# Altium schematic symbol library Remote.SchLib: 29 symbols
Pins are listed as number, name and electrical type; pins without a type are passive.

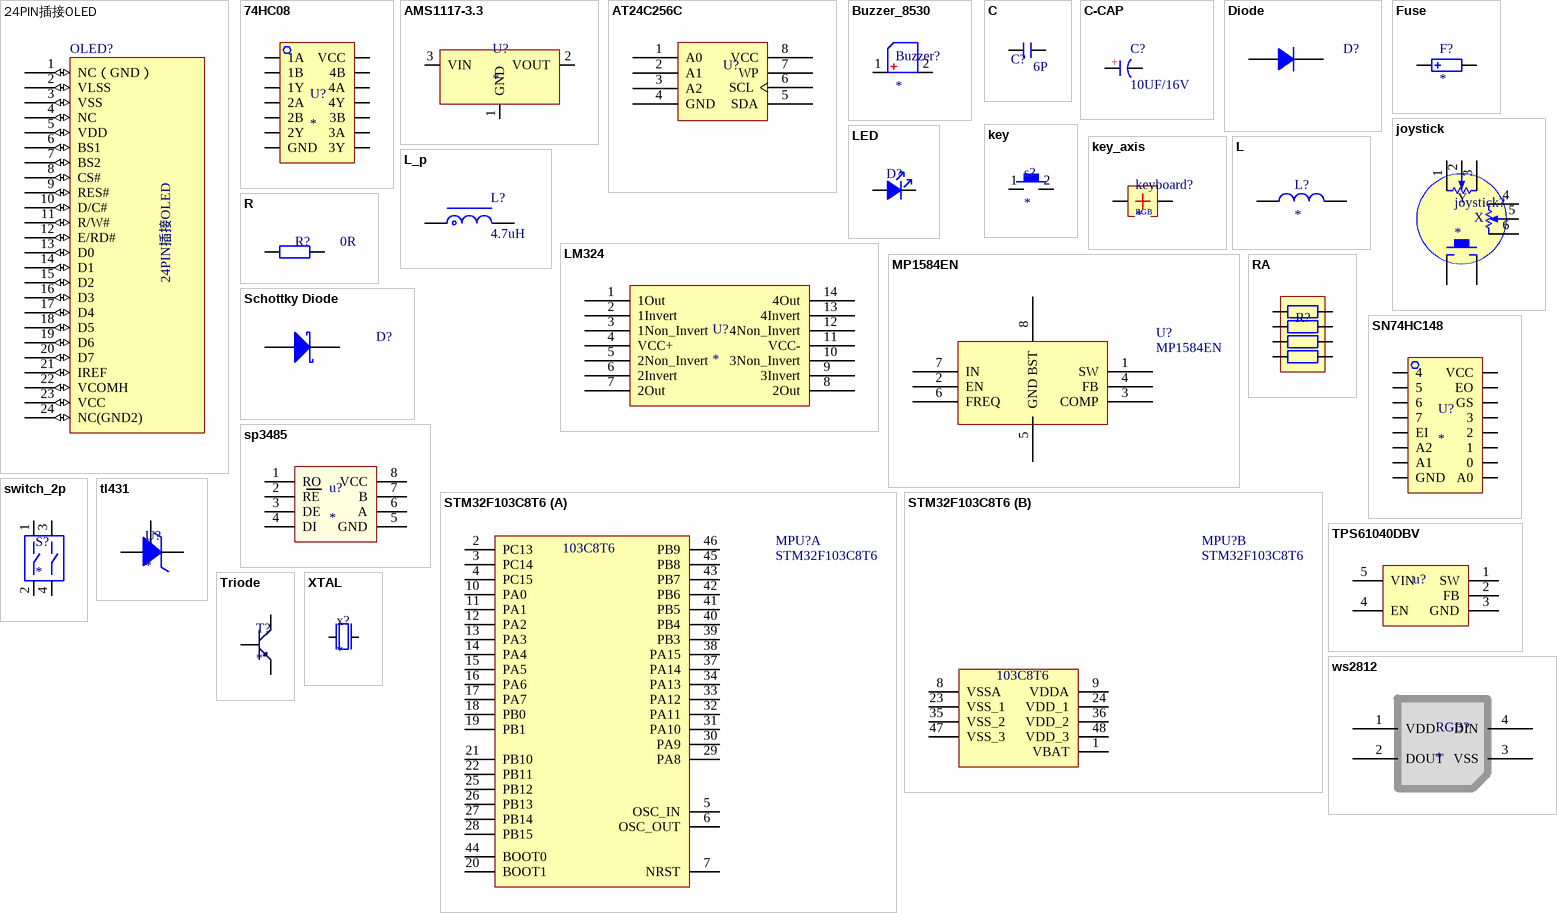
[diagram p0: symbols 24PIN插接OLED to XTAL]

## 24PIN插接OLED
designator OLED?
24PIN插接OLED
pins: 1 NC（GND） (io), 2 VLSS (io), 3 VSS (io), 4 NC (io), 5 VDD (io), 6 BS1 (io), 7 BS2 (io), 8 CS# (io), 9 RES# (io), 10 D/C# (io), 11 R/W# (io), 12 E/RD# (io), 13 D0 (io), 14 D1 (io), 15 D2 (io), 16 D3 (io), 17 D4 (io), 18 D5 (io), 19 D6 (io), 20 D7 (io), 21 IREF (io), 22 VCOMH (io), 23 VCC (io), 24 NC(GND2) (io)

## 74HC08
designator U?
4-AND
pins: 1 1A, 2 1B, 3 1Y, 4 2A, 5 2B, 6 2Y, 7 GND, 8 3Y, 9 3A, 10 3B, 11 4Y, 12 4A, 13 4B, 14 VCC

## AMS1117-3.3
designator U?
LDO
footprint ASM1117 (SOT223, 4-Leads, Body 6.51x7.00mm (avg), Pitch 2.30mm, IPC Medium Density)
pins: 1 GND, 2 VOUT, 3 VIN

## AT24C256C
designator U?
256KBIT_EEPROM; BOM名称: 外置EEPROM; 版权归属: 源创客; 学习资源: www.ooocke.com
footprint SOP8_L (5*6*1.8mm（长宽高）)
pins: 1 A0, 2 A1, 3 A2, 4 GND, 5 SDA, 6 SCL, 7 WP, 8 VCC (power)

## Buzzer_8530
designator Buzzer?
无源蜂鸣器
footprint BUZZER_8530
pins: 1, 2

## C
designator C?, comment 6P
无极性贴片电容; 版权归属: 源创客; BOM名称: 无极性贴片电容; 学习资源: www.ooocke.com
footprint C 0603 (无极性贴片电容)
pins: 1, 2

## C-CAP
designator C?, comment 10UF/16V
直插电解电容; 版权归属: 源创客; BOM名称: 直插电解电容; 学习资源: www.ooocke.com
footprint C 1206 (无极性贴片电容)
pins: 1 A, 2 K
text: +

## Diode
designator D?
二极管; 备注: 1N4007 4007 编号C2464 已经停售, 使用新物料编号C95872; ComponentLink1Description: 供应商链接; ComponentLink1URL: http://www.szlcsc.com/product/details_2841.html; Package: SMA(DO-214AC); Supplier: LC; SuppliersPartNumber: C95872
footprint SMA(DO-214AC)_S1
pins: 1 A, 2 K

## Fuse
designator F?
自恢复保险丝
pins: 1, 2

## joystick
designator joystick?
PS2摇杆
footprint JoyStick
pins: 1, 2, 3, 4, 5, 6, J1, J2
text: Y; X

## key
designator s?
轻触开关
footprint KEY
pins: 1, 2

## key_axis
designator keyboard?
RGB键盘轴体
footprint KEY_AXIS
pins: 1, 2
text: RGB

## L
designator L?
电感
pins: 1, 2

## L_p
designator L?, comment 4.7uH
小功率贴片电感; 版权归属: 源创客; BOM名称: 小功率贴片电感; 学习资源: www.ooocke.com
footprint L 0603 (小功率贴片电感)
pins: 1, 2

## LED
designator D?
发光二极管
footprint 0603
pins: 1, 2

## LM324
designator U?
4-运放
footprint LM324 (SOIC, 14-Leads, Body 8.65x3.90mm, Pitch 1.27mm, IPC Medium Density)
pins: 1 1Out, 2 1Invert, 3 1Non_Invert, 4 VCC+, 5 2Non_Invert, 6 2Invert, 7 2Out, 8 2Out, 9 3Invert, 10 3Non_Invert, 11 VCC-, 12 4Non_Invert, 13 4Invert, 14 4Out

## MP1584EN
designator U?
电源IC
footprint LC-SOIC-8_EP_150mil
pins: 1 SW, 2 EN, 3 COMP, 4 FB, 5 GND, 6 FREQ, 7 IN, 8 BST

## R
designator R?, comment 0R
贴片电阻; 版权归属: 源创客; BOM名称: 贴片电阻; 学习资源: www.ooocke.com
footprint R 0603 (1/10W贴片电阻)
pins: 1, 2

## RA
designator R?
排阻
pins: 1, 2, 3, 4, 5, 6, 7, 8

## Schottky Diode
designator D?
肖特基二极管; ComponentLink1Description: 供应商链接; ComponentLink1URL: http://www.szlcsc.com/product/details_9093.html; Package: SOD-123; Supplier: LC; SuppliersPartNumber: C8598
footprint SOD-123
pins: 1, 2

## SN74HC148
designator U?
8-3encoder
footprint SOIC-16-150mil (SOIC, 16-Leads, Body 9.90x3.90mm, Pitch 1.27mm, IPC Medium Density)
pins: 1 4, 2 5, 3 6, 4 7, 5 EI, 6 A2, 7 A1, 8 GND, 9 A0, 10 0, 11 1, 12 2, 13 3, 14 GS, 15 EO, 16 VCC

## sp3485
designator u?
485ic
footprint MAX485 (SOIC, 8-Leads, Body 5.0x4.0mm (max), Pitch 1.27mm)
pins: 1 RO, 2 RE, 3 DE, 4 DI, 5 GND, 6 A, 7 B, 8 VCC

## STM32F103C8T6
designator MPU?
mcu
footprint stm32f103c8t6 (TSQFP, 48-Leads, Body 7.00x7.00mm, Pitch 0.50mm, IPC Medium Density)
part A pins: 2 PC13 (power), 3 PC14 (power), 4 PC15 (power), 5 OSC_IN (power), 6 OSC_OUT (power), 7 NRST (power), 10 PA0 (power), 11 PA1 (power), 12 PA2 (power), 13 PA3 (power), 14 PA4 (power), 15 PA5, 16 PA6, 17 PA7, 18 PB0, 19 PB1, 20 BOOT1, 21 PB10, 22 PB11, 25 PB12, 26 PB13, 27 PB14, 28 PB15, 29 PA8, 30 PA9, 31 PA10, 32 PA11, 33 PA12, 34 PA13, 37 PA14, 38 PA15, 39 PB3, 40 PB4, 41 PB5, 42 PB6, 43 PB7, 44 BOOT0 (power), 45 PB8 (power), 46 PB9 (power)
part B pins: 1 VBAT (power), 8 VSSA (power), 9 VDDA (power), 23 VSS_1, 24 VDD_1, 35 VSS_2, 36 VDD_2, 47 VSS_3 (power), 48 VDD_3 (power)
part A text: 103C8T6
part B text: 103C8T6

## switch_2p
designator S?
拨码开关
footprint SWITCH_2P
pins: 1 154, 2 156, 3 155, 4 157

## tl431
designator U?
精密电压基准ic
pins: 1, 2, 3

## TPS61040DBV
designator u?
DC-DC(boost)
pins: 1 SW, 2 FB, 3 GND, 4 EN, 5 VIN

## Triode
designator T?
NPN
footprint SOT-23-3 (SOT23, 3-Leads, Body 2.90x2.45mm, Pitch 0.95mm, IPC Medium Density)
pins: 1 B, 2 E, 3 C

## ws2812
designator RGB?
RGB集成光源
footprint WS2812-5050-4p (RGB集成光源)
pins: 1 VDD, 2 DOUT, 3 VSS, 4 DIN

## XTAL
designator x?
晶振
footprint 8M晶振
pins: 1, 2